# Altium footprint library uSD - 2201778-1.PcbLib: 1 footprints
Each footprint in its own frame and in the unit in brackets; x right, y up, seen from the top. Pads: shape width x height; smd on the part's side, far side on the other; paste and mask are expansions set on the pad; w line width, h text height; cw(c..) or ccw(c..) is an arc to the next point about the centre after c.
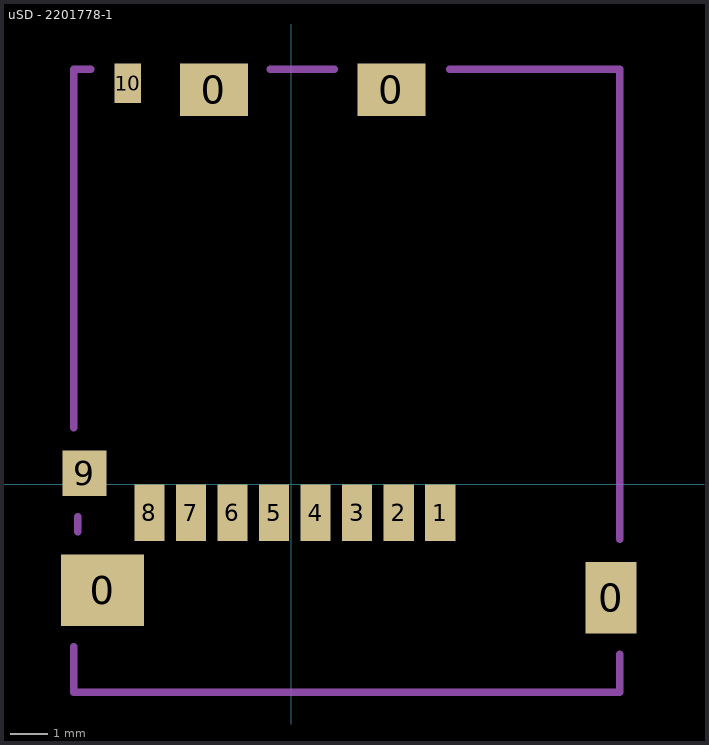
[diagram p0: the footprint, top view; thin cyan lines are the x and y axes]

## uSD - 2201778-1 [mm] "TE CONNECTIVITY - 2201778-1 - CONNECTOR, MICROSD, PUSH PUSH"
pads (14):
  rect 2.2x1.9 smd: 0(-4.99,-2.8)
  rect 1.8x1.4 smd: 0(-2.04,10.45) 0(2.66,10.45)
  rect 1.35x1.9 smd: 0(8.475,-3)
  rect 0.8x1.5 smd: 1(3.95,-0.75) 2(2.85,-0.75) 3(1.75,-0.75) 4(0.65,-0.75) 5(-0.45,-0.75) 6(-1.55,-0.75) 7(-2.65,-0.75) 8(-3.75,-0.75)
  rect 1.16x1.2 smd: 9(-5.47,0.3)
  rect 0.7x1.05 smd: 10(-4.32,10.625)
Top Courtyard:
  lines w0.2: -5.75,-5.5 -5.75,-4.3 ; -5.75,1.5 -5.75,11 -5.3,11 ; -5.7,-5.5 8.7,-5.5 8.7,-4.5 ; -5.65,-1.25 -5.65,-0.85 ; -0.55,11 1.15,11 ; 4.2,11 8.7,11 8.7,-1.45